# EAGLE library part FPC-37 (library LITTLEBITS140915)
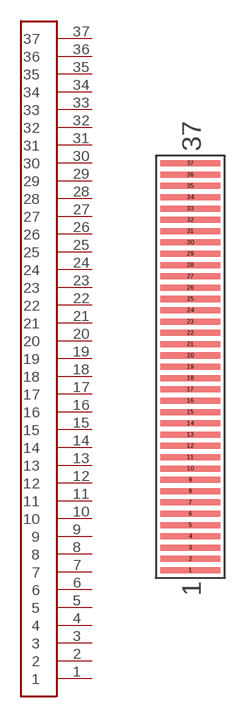
[diagram p43: symbol with the pads of FPC-37-.075MM; footprint FPC-37-.075MM]

Designator prefix -

## FPC-37  [FPC-37-.075MM]
1  1
2  2
3  3
4  4
5  5
6  6
7  7
8  8
9  9
10  10
11  11
12  12
13  13
14  14
15  15
16  16
17  17
18  18
19  19
20  20
21  21
22  22
23  23
24  24
25  25
26  26
27  27
28  28
29  29
30  30
31  31
32  32
33  33
34  34
35  35
36  36
37  37

## Footprint FPC-37-.075MM (pad centres in mm)
smd 4 x 0.4: 1 0,0; 2 0,0.75; 3 0,1.5; 4 0,2.25; 5 0,3; 6 0,3.75; 7 0,4.5; 8 0,5.25; 9 0,6; 10 0,6.75; 11 0,7.5; 12 0,8.25; 13 0,9; 14 0,9.75; 15 0,10.5; 16 0,11.25; 17 0,12; 18 0,12.75; 19 0,13.5; 20 0,14.25; 21 0,15; 22 0,15.75; 23 0,16.5; 24 0,17.25; 25 0,18; 26 0,18.75; 27 0,19.5; 28 0,20.25; 29 0,21; 30 0,21.75; 31 0,22.5; 32 0,23.25; 33 0,24; 34 0,24.75; 35 0,25.5; 36 0,26.25; 37 0,27